# Altium footprint library WR-TBL_Rising Cage Clamp_7.00mm.PcbLib: 22 footprints (part 1 of 2)
Each footprint in its own frame and in the unit in brackets; x right, y up, seen from the top. Pads: shape width x height; smd on the part's side, far side on the other; paste and mask are expansions set on the pad; w line width, h text height; cw(c..) or ccw(c..) is an arc to the next point about the centre after c.
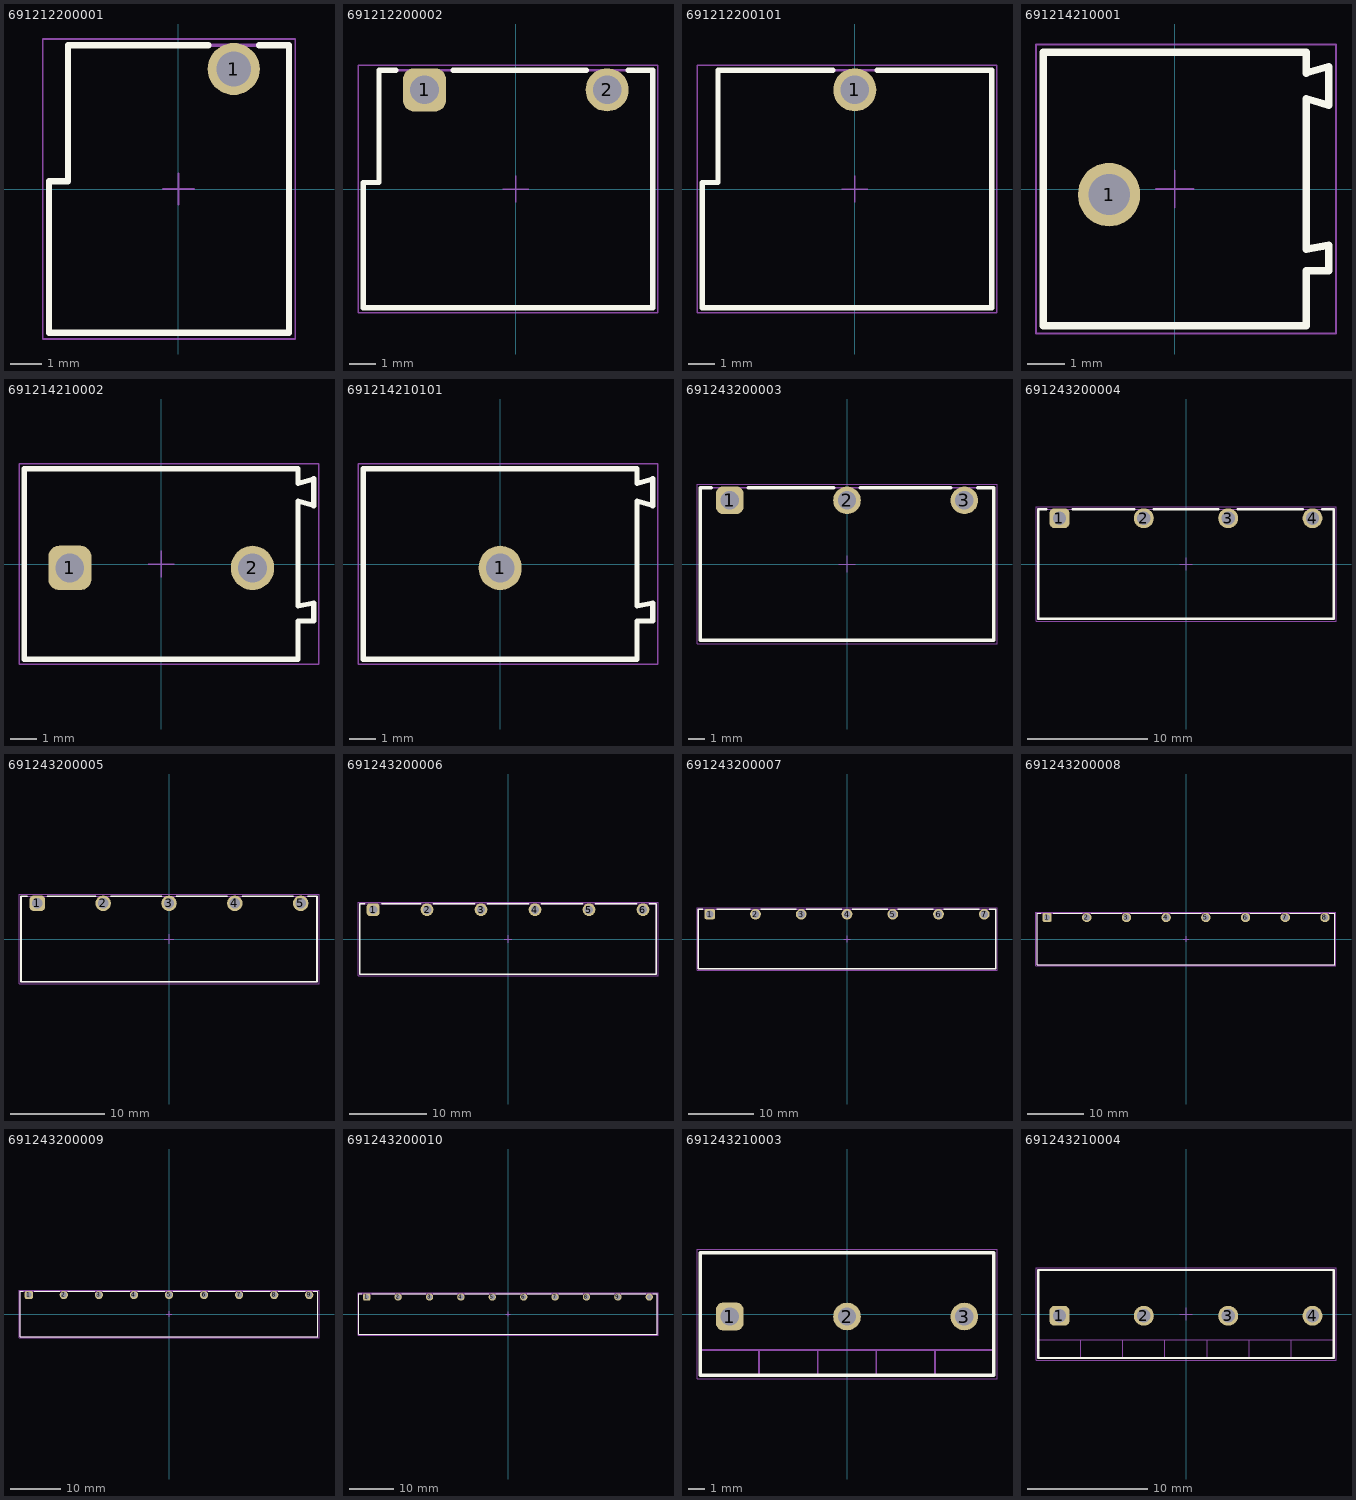
[diagram p0: the footprints below, top view; thin cyan lines are the x and y axes]

## 691212200001 [mm] "7.00 mm Vertical Entry with Rising Cage Clamp, 1p"
height 7.3
pads (1):
  round 1.65 hole 1.1: 1(1.75,3.8)
Top Overlay:
  lines w0.2: 0.95,4.55 -3.5,4.55 -3.5,0.25 -4.1,0.25 -4.1,-4.55 3.5,-4.55 3.5,4.55 2.55,4.55
Top Designator:
  text ".Designator" at -7.498,-0.5 h1.5
Top Component Outline:
  lines w0.1: -4.1,-4.55 3.5,-4.55 3.5,4.55 -3.5,4.55 -3.5,0.25 -4.1,0.25 -4.1,-4.55
Top 3D Body:
  lines w0.1: -4.1,-4.55 -4.1,0.25 -3.5,0.25 -3.5,4.55 3.5,4.55 3.5,-4.55 -4.1,-4.55
Top Courtyard:
  lines w0.05: -4.3,-4.75 -4.3,4.75 3.7,4.75 3.7,-4.75 -4.3,-4.75
Top Component Center:
  lines w0.05: -0.5,0 0.5,0 ; 0,-0.5 0,0.5
3D body "691212200001.stp": height 7.33, standoff -3.47, extent -4.1,-4.55 3.5,4.55

## 691212200002 [mm] "7.00 mm Vertical Entry with Rising Cage Clamp, 2p"
height 7.3
pads (2):
  rrect50% 1.65x1.65 hole 1.1: 1(-3.5,3.8)
  round 1.65 hole 1.1: 2(3.5,3.8)
Top Overlay:
  lines w0.2: -4.6,4.55 -5.25,4.55 -5.25,0.25 -5.85,0.25 -5.85,-4.55 5.25,-4.55 5.25,4.55 4.3,4.55 ; -2.4,4.55 2.7,4.55
Top Designator:
  text ".Designator" at -7.498,-0.5 h1.5
Top Component Outline:
  lines w0.1: -5.85,-4.55 5.25,-4.55 5.25,4.55 -5.25,4.55 -5.25,0.25 -5.85,0.25 -5.85,-4.55
Top 3D Body:
  lines w0.1: -5.85,-4.55 -5.85,0.25 -5.25,0.25 -5.25,4.55 5.25,4.55 5.25,-4.55 -5.85,-4.55
Top Courtyard:
  lines w0.05: -6.05,-4.75 -6.05,4.75 5.45,4.75 5.45,-4.75 -6.05,-4.75
Top Component Center:
  lines w0.05: -0.5,0 0.5,0 ; 0,-0.5 0,0.5
3D body "691212200002.stp": height 7.33, standoff -3.47, extent -5.85,-4.55 5.25,4.55

## 691212200101 [mm] "7.00 mm Vertical Entry with Rising Cage Clamp, 1p"
height 7.3
pads (1):
  round 1.65 hole 1.1: 1(0,3.8)
Top Overlay:
  lines w0.2: -0.85,4.55 -5.25,4.55 -5.25,0.25 -5.85,0.25 -5.85,-4.55 5.25,-4.55 5.25,4.55 0.85,4.55
Top Designator:
  text ".Designator" at -7.498,-0.5 h1.5
Top Component Outline:
  lines w0.1: -5.85,-4.55 5.25,-4.55 5.25,4.55 -5.25,4.55 -5.25,0.25 -5.85,0.25 -5.85,-4.55
Top 3D Body:
  lines w0.1: -5.85,-4.55 -5.85,0.25 -5.25,0.25 -5.25,4.55 5.25,4.55 5.25,-4.55 -5.85,-4.55
Top Courtyard:
  lines w0.05: -6.05,-4.75 -6.05,4.75 5.45,4.75 5.45,-4.75 -6.05,-4.75
Top Component Center:
  lines w0.05: -0.5,0 0.5,0 ; 0,-0.5 0,0.5
3D body "691212200101.stp": height 7.33, standoff -3.47, extent -5.85,-4.55 5.25,4.55

## 691214210001 [mm] "Serie 2142, 7.00 mm, Horizontal Cable Entry with Rising Cage Clamp"
height 9.1
pads (1):
  oval 1.65x1.7 hole 1.1: 1(-1.75,-0.15)
Top Overlay:
  lines w0.2: -3.5,-3.65 -3.5,3.65 3.5,3.65 3.5,3.09 4.1,3.265 4.1,2.235 3.5,2.41 3.5,-1.61 4.1,-1.5 4.1,-2.18 3.5,-2.18 3.5,-3.65 -3.5,-3.65
Top Designator:
  text ".Designator" at -7.498,-0.5 h1.5
Top Component Outline:
  lines w0.1: -3.5,-3.65 3.5,-3.65 3.5,-2.18 4.1,-2.18 4.1,-1.5 3.5,-1.61 3.5,2.41 4.1,2.235 4.1,3.265 3.5,3.09 3.5,3.65 -3.5,3.65 -3.5,-3.65
Top 3D Body:
  lines w0.1: -3.5,-3.65 -3.5,3.65 3.5,3.65 3.5,3.09 4.1,3.265 4.1,2.235 3.5,2.41 3.5,-1.61 4.1,-1.5 4.1,-2.18 3.5,-2.18 3.5,-3.65 -3.5,-3.65
Top Courtyard:
  lines w0.05: -3.7,-3.85 -3.7,3.85 4.3,3.85 4.3,-3.85 -3.7,-3.85
Top Component Center:
  lines w0.05: -0.5,0 0.5,0 ; 0,-0.5 0,0.5
3D body "691214210001.stp": height 9.2, standoff -3.4, extent -3.5,-3.65 4.1,3.65

## 691214210002 [mm] "Serie 2142, 7.00 mm, Horizontal Cable Entry with Rising Cage Clamp"
height 9.1
pads (2):
  rrect50% 1.65x1.7 hole 1.1: 1(-3.5,-0.15)
  oval 1.65x1.7 hole 1.1: 2(3.5,-0.15)
Top Overlay:
  lines w0.2: -5.25,-3.65 -5.25,3.65 5.25,3.65 5.25,3.09 5.85,3.265 5.85,2.235 5.25,2.41 5.25,-1.61 5.85,-1.5 5.85,-2.18 5.25,-2.18 5.25,-3.65 -5.25,-3.65
Top Designator:
  text ".Designator" at -7.498,-0.5 h1.5
Top Component Outline:
  lines w0.1: -5.25,-3.65 5.25,-3.65 5.25,-2.18 5.85,-2.18 5.85,-1.5 5.25,-1.61 5.25,2.41 5.85,2.235 5.85,3.265 5.25,3.09 5.25,3.65 -5.25,3.65 -5.25,-3.65
Top 3D Body:
  lines w0.1: -5.25,-3.65 -5.25,3.65 5.25,3.65 5.25,3.09 5.85,3.265 5.85,2.235 5.25,2.41 5.25,-1.61 5.85,-1.5 5.85,-2.18 5.25,-2.18 5.25,-3.65 -5.25,-3.65
Top Courtyard:
  lines w0.05: -5.45,-3.85 -5.45,3.85 6.05,3.85 6.05,-3.85 -5.45,-3.85
Top Component Center:
  lines w0.05: -0.5,0 0.5,0 ; 0,-0.5 0,0.5
3D body "691214210002.stp": height 9.2, standoff -3.4, extent -5.25,-3.65 5.85,3.65

## 691214210101 [mm] "Serie 2142, 7.00 mm, Horizontal Cable Entry with Rising Cage Clamp"
height 9.1
pads (1):
  oval 1.65x1.7 hole 1.1: 1(0,-0.15)
Top Overlay:
  lines w0.2: -5.25,-3.65 -5.25,3.65 5.25,3.65 5.25,3.09 5.85,3.265 5.85,2.235 5.25,2.41 5.25,-1.61 5.85,-1.5 5.85,-2.18 5.25,-2.18 5.25,-3.65 -5.25,-3.65
Top Designator:
  text ".Designator" at -7.498,-0.5 h1.5
Top Component Outline:
  lines w0.1: -5.25,-3.65 5.25,-3.65 5.25,-2.18 5.85,-2.18 5.85,-1.5 5.25,-1.61 5.25,2.41 5.85,2.235 5.85,3.265 5.25,3.09 5.25,3.65 -5.25,3.65 -5.25,-3.65
Top 3D Body:
  lines w0.1: -5.25,-3.65 -5.25,3.65 5.25,3.65 5.25,3.09 5.85,3.265 5.85,2.235 5.25,2.41 5.25,-1.61 5.85,-1.5 5.85,-2.18 5.25,-2.18 5.25,-3.65 -5.25,-3.65
Top Courtyard:
  lines w0.05: -5.45,-3.85 -5.45,3.85 6.05,3.85 6.05,-3.85 -5.45,-3.85
Top Component Center:
  lines w0.05: -0.5,0 0.5,0 ; 0,-0.5 0,0.5
3D body "691214210101.stp": height 9.2, standoff -3.4, extent -5.25,-3.65 5.85,3.65

## 691243200003 [mm] "Serie 2432 - 7.00 mm _ 3 pins"
height 7.3
pads (3):
  rrect50% 1.65x1.65 hole 1.1: 1(-7,3.8)
  round 1.65 hole 1.1: 2(0,3.8) 3(7,3.8)
Top Overlay:
  lines w0.2: -8.1,4.55 -8.75,4.55 -8.75,-4.55 8.75,-4.55 8.75,4.55 7.8,4.55 ; -5.9,4.55 -0.8,4.55 ; 0.8,4.55 6.2,4.55
Top Designator:
  text ".Designator" at -7.498,-0.5 h1.5
Top Component Outline:
  lines w0.1: -8.75,-4.55 8.75,-4.55 8.75,4.55 -8.75,4.55 -8.75,-4.55
Top 3D Body:
  lines w0.1: -8.75,-4.55 -8.75,4.55 8.75,4.55 8.75,-4.55 -8.75,-4.55
Top Courtyard:
  lines w0.05: -8.95,-4.75 8.95,-4.75 8.95,4.75 -8.95,4.75 -8.95,-4.75
Top Component Center:
  lines w0.05: -0.5,0 0.5,0 ; 0,-0.5 0,0.5
3D body "691243200003.stp": height 7.4, standoff -3.4, extent -8.75,-4.55 8.75,4.55

## 691243200004 [mm] "Serie 2432 - 7.00 mm _ 4 pins"
height 7.3
pads (4):
  rrect50% 1.65x1.65 hole 1.1: 1(-10.5,3.8)
  round 1.65 hole 1.1: 2(-3.5,3.8) 3(3.5,3.8) 4(10.5,3.8)
Top Overlay:
  lines w0.2: -11.6,4.55 -12.25,4.55 -12.25,-4.55 12.25,-4.55 12.25,4.55 11.3,4.55 ; -9.4,4.55 -4.3,4.55 ; -2.7,4.55 2.7,4.55 ; 4.3,4.55 9.7,4.55
Top Designator:
  text ".Designator" at -7.498,-0.5 h1.5
Top Component Outline:
  lines w0.1: -12.25,-4.55 12.25,-4.55 12.25,4.55 -12.25,4.55 -12.25,-4.55
Top 3D Body:
  lines w0.1: -12.25,-4.55 -12.25,4.55 12.25,4.55 12.25,-4.55 -12.25,-4.55
Top Courtyard:
  lines w0.05: -12.45,-4.75 12.45,-4.75 12.45,4.75 -12.45,4.75 -12.45,-4.75
Top Component Center:
  lines w0.05: -0.5,0 0.5,0 ; 0,-0.5 0,0.5
3D body "691243200004.stp": height 7.4, standoff -3.4, extent -12.25,-4.55 12.25,4.55

## 691243200005 [mm] "Serie 2432 - 7.00 mm _ 5 pins"
height 7.3
pads (5):
  rrect50% 1.65x1.65 hole 1.1: 1(-14,3.8)
  round 1.65 hole 1.1: 2(-7,3.8) 3(0,3.8) 4(7,3.8) 5(14,3.8)
Top Overlay:
  lines w0.2: -15.1,4.55 -15.75,4.55 -15.75,-4.55 15.75,-4.55 15.75,4.55 14.8,4.55 ; -12.9,4.55 -7.8,4.55 ; -6.2,4.55 -0.8,4.55 ; 0.8,4.55 6.2,4.55 ; 7.8,4.55 13.2,4.55
Top Designator:
  text ".Designator" at -7.498,-0.5 h1.5
Top Component Outline:
  lines w0.1: -15.75,-4.55 -15.75,4.55 15.75,4.55 15.75,-4.55 -15.75,-4.55
Top 3D Body:
  lines w0.1: -15.75,-4.55 15.75,-4.55 15.75,4.55 -15.75,4.55 -15.75,-4.55
Top Courtyard:
  lines w0.05: -15.95,-4.75 -15.95,4.75 15.95,4.75 15.95,-4.75 -15.95,-4.75
Top Component Center:
  lines w0.05: -0.5,0 0.5,0 ; 0,-0.5 0,0.5
3D body "691243200005.stp": height 7.4, standoff -3.4, extent -15.75,-4.55 15.75,4.55

## 691243200006 [mm] "Serie 2432 - 7.00 mm _ 6 pins"
height 7.3
pads (6):
  rrect50% 1.65x1.65 hole 1.1: 1(-17.5,3.8)
  round 1.65 hole 1.1: 2(-10.5,3.8) 3(-3.5,3.8) 4(3.5,3.8) 5(10.5,3.8) 6(17.5,3.8)
Top Overlay:
  lines w0.2: -18.6,4.55 -19.25,4.55 -19.25,-4.55 19.25,-4.55 19.25,4.55 18.3,4.55 ; -16.4,4.55 -11.3,4.55 ; -9.7,4.55 -4.3,4.55 ; -2.7,4.55 2.7,4.55 ; 4.3,4.55 9.7,4.55 ; 11.3,4.55 16.7,4.55
Top Designator:
  text ".Designator" at -7.498,-0.5 h1.5
Top Component Outline:
  lines w0.1: -19.25,-4.55 19.25,-4.55 19.25,4.55 -19.25,4.55 -19.25,-4.55
Top 3D Body:
  lines w0.1: -19.25,-4.55 -19.25,4.55 19.25,4.55 19.25,-4.55 -19.25,-4.55
Top Courtyard:
  lines w0.05: -19.45,-4.75 19.45,-4.75 19.45,4.75 -19.45,4.75 -19.45,-4.75
Top Component Center:
  lines w0.05: -0.5,0 0.5,0 ; 0,-0.5 0,0.5
3D body "691243200006.stp": height 7.4, standoff -3.4, extent -19.25,-4.55 19.25,4.55

## 691243200007 [mm] "Serie 2432 - 7.00 mm _ 7 pins"
height 7.3
pads (7):
  rrect50% 1.65x1.65 hole 1.1: 1(-21,3.8)
  round 1.65 hole 1.1: 2(-14,3.8) 3(-7,3.8) 4(0,3.8) 5(7,3.8) 6(14,3.8) 7(21,3.8)
Top Overlay:
  lines w0.2: -22.1,4.55 -22.75,4.55 -22.75,-4.55 22.75,-4.55 22.75,4.55 21.8,4.55 ; -19.9,4.55 -14.8,4.55 ; -13.2,4.55 -7.8,4.55 ; -6.2,4.55 -0.8,4.55 ; 0.8,4.55 6.2,4.55 ; 7.8,4.55 13.2,4.55 ; 14.8,4.55 20.2,4.55
Top Designator:
  text ".Designator" at -7.498,-0.5 h1.5
Top Component Outline:
  lines w0.1: -22.75,-4.55 -22.75,4.55 22.75,4.55 22.75,-4.55 -22.75,-4.55
Top 3D Body:
  lines w0.1: -22.75,-4.55 22.75,-4.55 22.75,4.55 -22.75,4.55 -22.75,-4.55
Top Courtyard:
  lines w0.05: -22.95,-4.75 -22.95,4.75 22.95,4.75 22.95,-4.75 -22.95,-4.75
Top Component Center:
  lines w0.05: -0.5,0 0.5,0 ; 0,-0.5 0,0.5
3D body "691243200007.stp": height 7.4, standoff -3.4, extent -22.75,-4.55 22.75,4.55

## 691243200008 [mm] "Serie 2432 - 7.00 mm _ 8 pins"
height 7.3
pads (8):
  rrect50% 1.65x1.65 hole 1.1: 1(-24.5,3.8)
  round 1.65 hole 1.1: 2(-17.5,3.8) 3(-10.5,3.8) 4(-3.5,3.8) 5(3.5,3.8) 6(10.5,3.8) 7(17.5,3.8) 8(24.5,3.8)
Top Overlay:
  lines w0.2: -25.6,4.55 -26.25,4.55 -26.25,-4.55 26.25,-4.55 26.25,4.55 25.3,4.55 ; -23.4,4.55 -18.3,4.55 ; -16.7,4.55 -11.3,4.55 ; -9.7,4.55 -4.3,4.55 ; -2.7,4.55 2.7,4.55 ; 4.3,4.55 9.7,4.55 ; 11.3,4.55 16.7,4.55 ; 18.3,4.55 23.7,4.55
Top Designator:
  text ".Designator" at -7.498,-0.5 h1.5
Top Component Outline:
  lines w0.1: -26.25,-4.55 26.25,-4.55 26.25,4.55 -26.25,4.55 -26.25,-4.55
Top 3D Body:
  lines w0.1: -26.25,-4.55 -26.25,4.55 26.25,4.55 26.25,-4.55 -26.25,-4.55
Top Courtyard:
  lines w0.05: -26.45,-4.75 26.45,-4.75 26.45,4.75 -26.45,4.75 -26.45,-4.75
Top Component Center:
  lines w0.05: -0.5,0 0.5,0 ; 0,-0.5 0,0.5
3D body "691243200008.stp": height 7.4, standoff -3.4, extent -26.25,-4.55 26.25,4.55

## 691243200009 [mm] "Serie 2432 - 7.00 mm _ 9 pins"
height 7.3
pads (9):
  rrect50% 1.65x1.65 hole 1.1: 1(-28,3.8)
  round 1.65 hole 1.1: 2(-21,3.8) 3(-14,3.8) 4(-7,3.8) 5(0,3.8) 6(7,3.8) 7(14,3.8) 8(21,3.8) 9(28,3.8)
Top Overlay:
  lines w0.2: -29.1,4.55 -29.75,4.55 -29.75,-4.55 29.75,-4.55 29.75,4.55 28.8,4.55 ; -26.9,4.55 -21.8,4.55 ; -20.2,4.55 -14.8,4.55 ; -13.2,4.55 -7.8,4.55 ; -6.2,4.55 -0.8,4.55 ; 0.8,4.55 6.2,4.55 ; 7.8,4.55 13.2,4.55 ; 14.8,4.55 20.2,4.55 ; 21.8,4.55 27.2,4.55
Top Designator:
  text ".Designator" at -7.498,-0.5 h1.5
Top Component Outline:
  lines w0.1: -29.75,-4.55 -29.75,4.55 29.75,4.55 29.75,-4.55 -29.75,-4.55
Top 3D Body:
  lines w0.1: -29.75,-4.55 29.75,-4.55 29.75,4.55 -29.75,4.55 -29.75,-4.55
Top Courtyard:
  lines w0.05: -29.95,-4.75 -29.95,4.75 29.95,4.75 29.95,-4.75 -29.95,-4.75
Top Component Center:
  lines w0.05: -0.5,0 0.5,0 ; 0,-0.5 0,0.5
3D body "691243200009.stp": height 7.4, standoff -3.4, extent -29.75,-4.55 29.75,4.55

## 691243200010 [mm] "Serie 2432 - 7.00 mm _ 10 pins"
height 7.3
pads (10):
  rrect50% 1.65x1.65 hole 1.1: 1(-31.5,3.8)
  round 1.65 hole 1.1: 2(-24.5,3.8) 3(-17.5,3.8) 4(-10.5,3.8) 5(-3.5,3.8) 6(3.5,3.8) 7(10.5,3.8) 8(17.5,3.8) 9(24.5,3.8) 10(31.5,3.8)
Top Overlay:
  lines w0.2: -32.6,4.55 -33.25,4.55 -33.25,-4.55 33.25,-4.55 33.25,4.55 32.3,4.55 ; -30.4,4.55 -25.3,4.55 ; -23.7,4.55 -18.3,4.55 ; -16.7,4.55 -11.3,4.55 ; -9.7,4.55 -4.3,4.55 ; -2.7,4.55 2.7,4.55 ; 4.3,4.55 9.7,4.55 ; 11.3,4.55 16.7,4.55 ; 18.3,4.55 23.7,4.55 ; 25.3,4.55 30.7,4.55
Top Designator:
  text ".Designator" at -7.498,-0.5 h1.5
Top Component Outline:
  lines w0.1: -33.25,-4.55 -33.25,4.55 33.25,4.55 33.25,-4.55 -33.25,-4.55
Top 3D Body:
  lines w0.1: -33.25,-4.55 33.25,-4.55 33.25,4.55 -33.25,4.55 -33.25,-4.55
Top Courtyard:
  lines w0.05: -33.45,-4.75 -33.45,4.75 33.45,4.75 33.45,-4.75 -33.45,-4.75
Top Component Center:
  lines w0.05: -0.5,0 0.5,0 ; 0,-0.5 0,0.5
3D body "691243200010.stp": height 7.4, standoff -3.4, extent -33.25,-4.55 33.25,4.55

## 691243210003 [mm] "Serie 2432 - 7.00 mm _ 3 pins"
height 9.1
pads (3):
  rrect50% 1.65x1.65 hole 1.1: 1(-7,-0.15)
  round 1.65 hole 1.1: 2(0,-0.15) 3(7,-0.15)
Top Overlay:
  lines w0.2: -8.75,-3.65 8.75,-3.65 8.75,3.65 -8.75,3.65 -8.75,-3.65
Top Designator:
  text ".Designator" at -7.498,-0.5 h1.5
Top Component Outline:
  lines w0.1: -8.75,-2.15 8.75,-2.15 ; -5.25,-3.65 -5.25,-2.15 ; -1.75,-3.65 -1.75,-2.15 ; 1.75,-3.65 1.75,-2.15 ; 5.25,-3.65 5.25,-2.15 ; -8.75,-3.65 -8.75,3.65 8.75,3.65 8.75,-3.65 -8.75,-3.65
Top 3D Body:
  lines w0.1: -8.75,-2.15 8.75,-2.15 ; -5.25,-3.65 -5.25,-2.15 ; -1.75,-3.65 -1.75,-2.15 ; 1.75,-3.65 1.75,-2.15 ; 5.25,-3.65 5.25,-2.15 ; -8.75,-3.65 8.75,-3.65 8.75,3.65 -8.75,3.65 -8.75,-3.65
Top Courtyard:
  lines w0.05: -8.95,-3.85 8.95,-3.85 8.95,3.85 -8.95,3.85 -8.95,-3.85
Top Component Center:
  lines w0.05: -0.5,0 0.5,0 ; 0,-0.5 0,0.5
3D body "691243210003.stp": height 9.15, standoff -3.45, extent -8.75,-3.65 8.75,3.65

## 691243210004 [mm] "Serie 2432 - 7.00 mm _ 4 pins"
height 9.1
pads (4):
  rrect50% 1.65x1.65 hole 1.1: 1(-10.5,-0.15)
  round 1.65 hole 1.1: 2(-3.5,-0.15) 3(3.5,-0.15) 4(10.5,-0.15)
Top Overlay:
  lines w0.2: -12.25,-3.65 12.25,-3.65 12.25,3.65 -12.25,3.65 -12.25,-3.65
Top Designator:
  text ".Designator" at -7.498,-0.5 h1.5
Top Component Outline:
  lines w0.1: -12.25,-2.15 12.25,-2.15 ; -8.75,-3.65 -8.75,-2.15 ; -5.25,-3.65 -5.25,-2.15 ; -1.75,-3.65 -1.75,-2.15 ; 1.75,-3.65 1.75,-2.15 ; 5.25,-3.65 5.25,-2.15 ; 8.75,-3.65 8.75,-2.15 ; -12.25,-3.65 -12.25,3.65 12.25,3.65 12.25,-3.65 -12.25,-3.65
Top 3D Body:
  lines w0.1: -12.25,-2.15 12.25,-2.15 ; -8.75,-3.65 -8.75,-2.15 ; -5.25,-3.65 -5.25,-2.15 ; -1.75,-3.65 -1.75,-2.15 ; 1.75,-3.65 1.75,-2.15 ; 5.25,-3.65 5.25,-2.15 ; 8.75,-3.65 8.75,-2.15 ; -12.25,-3.65 12.25,-3.65 12.25,3.65 -12.25,3.65 -12.25,-3.65
Top Courtyard:
  lines w0.05: -12.45,-3.85 12.45,-3.85 12.45,3.85 -12.45,3.85 -12.45,-3.85
Top Component Center:
  lines w0.05: -0.5,0 0.5,0 ; 0,-0.5 0,0.5
3D body "691243210004.stp": height 9.15, standoff -3.45, extent -12.25,-3.65 12.25,3.65